# Altium schematic symbol library B320A_B360A.SchLib: 5 symbols
Pins are listed as number, name and electrical type; pins without a type are passive.

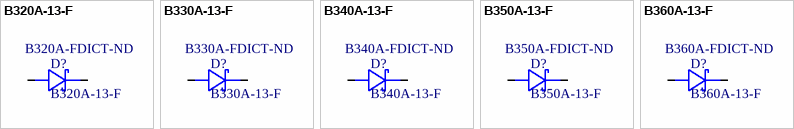
[diagram p0: symbols B320A-13-F to B360A-13-F]

## B320A-13-F
designator D?  Supplier Part Number 1: B320A-FDICT-ND
Diodes Inc. / Schottoky 20V 3A SMA Package; ComponentLink1Description: Datasheet; ComponentLink1URL: https://www.diodes.com/assets/Datasheets/ds30891.pdf; Supplier 1: Digi-Key
footprint B320A-B360A SMA Package (http://www.diodes.com/datasheets/ap02002.pdf)
pins: A, C

## B330A-13-F
designator D?  Supplier Part Number 1: B330A-FDICT-ND
Diodes Inc. / Schottoky 30V 3A SMA Package; ComponentLink1Description: Datasheet; ComponentLink1URL: https://www.diodes.com/assets/Datasheets/ds30891.pdf; Supplier 1: Digi-Key
footprint B320A-B360A SMA Package (http://www.diodes.com/datasheets/ap02002.pdf)
pins: A, C

## B340A-13-F
designator D?  Supplier Part Number 1: B340A-FDICT-ND
Diodes Inc. / Schottoky 40V 3A SMA Package; ComponentLink1Description: Datasheet; ComponentLink1URL: https://www.diodes.com/assets/Datasheets/ds30891.pdf; Supplier 1: Digi-Key
footprint B320A-B360A SMA Package (http://www.diodes.com/datasheets/ap02002.pdf)
pins: A, C

## B350A-13-F
designator D?  Supplier Part Number 1: B350A-FDICT-ND
Diodes Inc. / Schottoky 50V 3A SMA Package; ComponentLink1Description: Datasheet; ComponentLink1URL: https://www.diodes.com/assets/Datasheets/ds30891.pdf; Supplier 1: Digi-Key
footprint B320A-B360A SMA Package (http://www.diodes.com/datasheets/ap02002.pdf)
pins: A, C

## B360A-13-F
designator D?  Supplier Part Number 1: B360A-FDICT-ND
Diodes Inc. / Schottoky 60V 3A SMA Package; ComponentLink1Description: Datasheet; ComponentLink1URL: https://www.diodes.com/assets/Datasheets/ds30891.pdf; Supplier 1: Digi-Key
footprint B320A-B360A SMA Package (http://www.diodes.com/datasheets/ap02002.pdf)
pins: A, C